# Altium footprint library HD2.PcbLib: 40 footprints (part 1 of 3)
Each footprint in its own frame and in the unit in brackets; x right, y up, seen from the top. Pads: shape width x height; smd on the part's side, far side on the other; paste and mask are expansions set on the pad; w line width, h text height; cw(c..) or ccw(c..) is an arc to the next point about the centre after c.
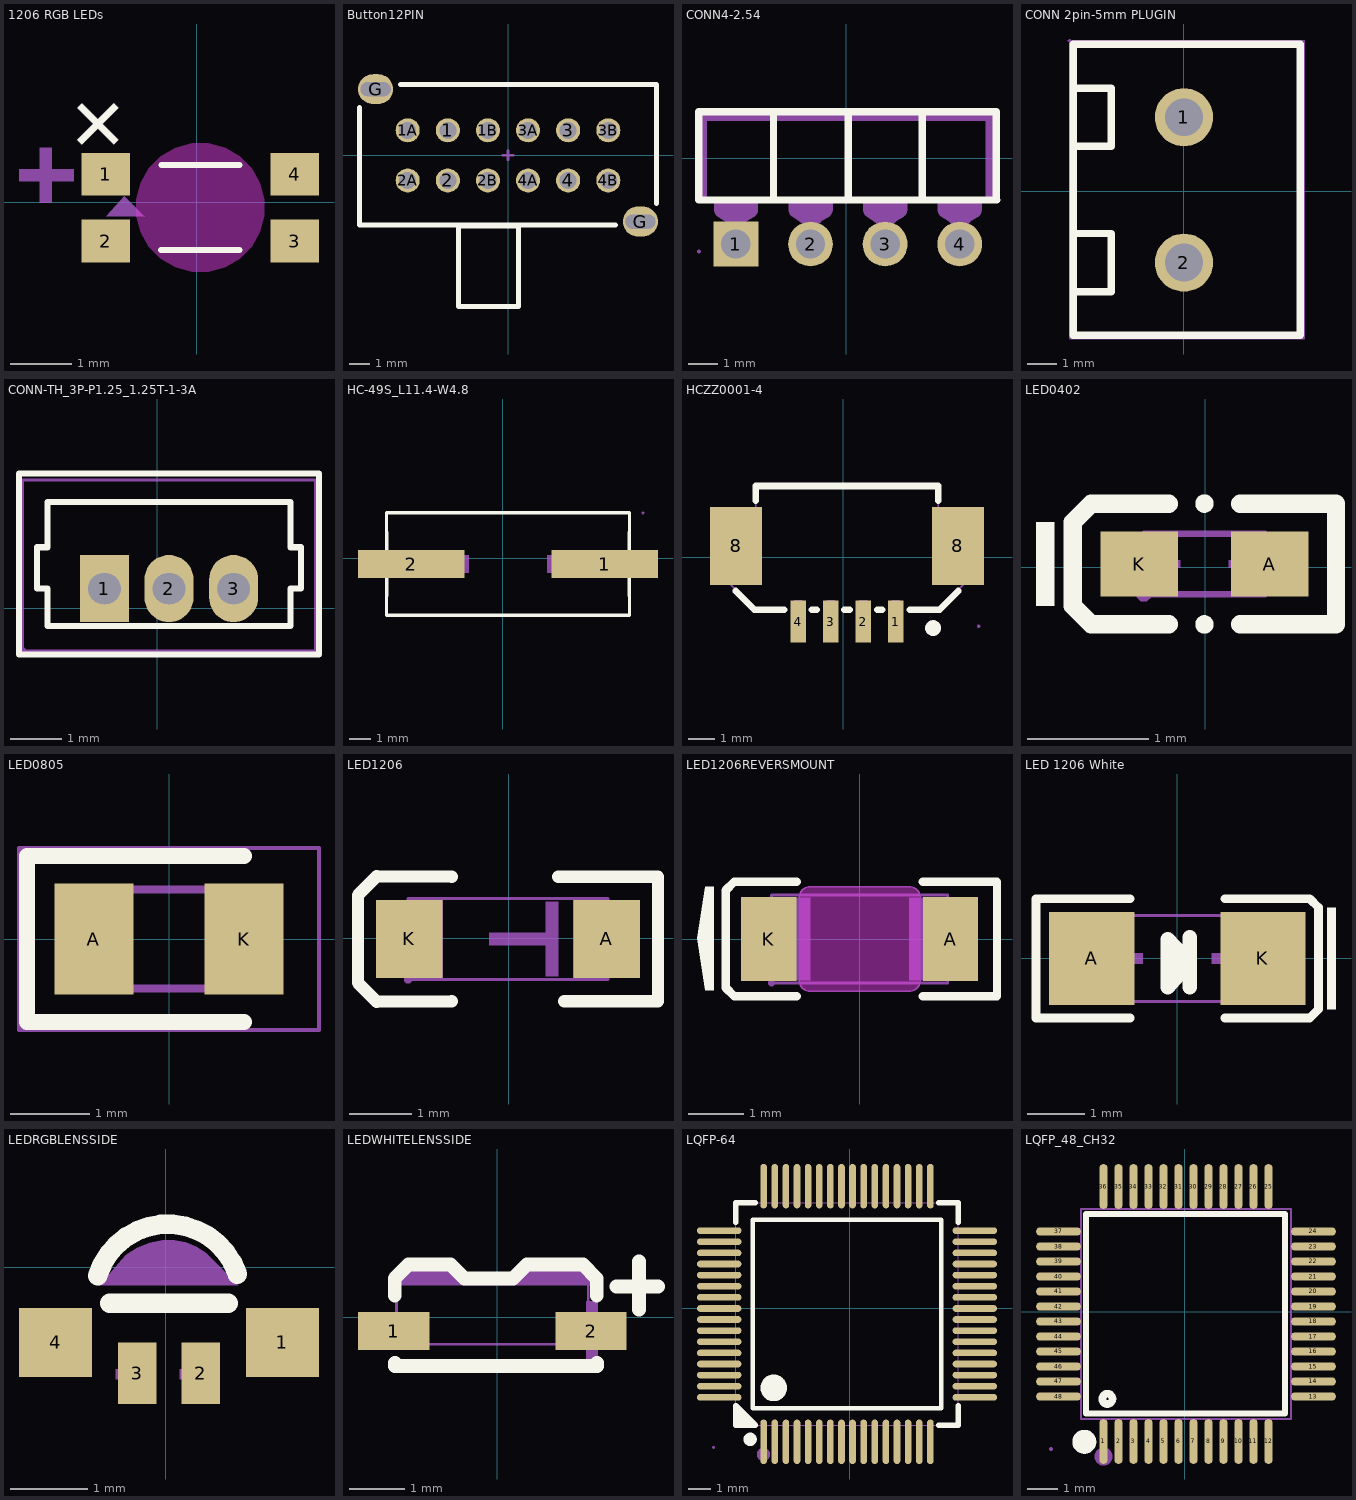
[diagram p0: the footprints below, top view; thin cyan lines are the x and y axes]

## 1206 RGB LEDs [mm]
pads (4):
  rect 0.8x0.7 smd paste+0 mask+0.05: 1(-1.494,0.462) 2(-1.494,-0.638) 3(1.606,-0.638) 4(1.606,0.462)
Top Overlay:
  lines w0.1: -0.59,-0.788 0.702,-0.788 ; -0.58,0.61 0.702,0.61
  text "+" at -1.729,0.577 h1
Keep-Out Layer:
  board cut-out: -0.994,-0.088 -0.995,0.051 -0.924,0.319 -0.786,0.56 -0.59,0.756 -0.35,0.895 -0.083,0.967 0.195,0.967 0.463,0.895 0.703,0.756 0.898,0.56 1.036,0.319 1.107,0.051 1.106,-0.088 1.107,-0.226 1.036,-0.495 0.898,-0.735 0.703,-0.932 0.463,-1.071 0.195,-1.143 -0.083,-1.143 -0.35,-1.071 -0.59,-0.932 -0.786,-0.735 -0.924,-0.495 -0.995,-0.226
Mechanical 15:
  region: -2.582,0.894 -2.582,-0.006 -2.382,-0.006 -2.382,0.894
  region: -2.921,0.343 -2.021,0.343 -2.021,0.543 -2.921,0.543
  region: -1.193,0.099 -1.49,-0.228 -0.866,-0.228

## Button12PIN [mm]
pads (14):
  round 1.2 / inner oval 1.016x1.651 / far side round 1.651 hole 0.85: 1(-3,1.25) 1A(-5,1.25) 1B(-1,1.25) 3(3,1.25) 3A(1,1.25)
  round 1.2 / inner round 1.4 / far side round 1.651 hole 0.85: 2(-3,-1.25) 2A(-5,-1.25) 3B(5,1.25) 4(3,-1.25) 4B(5,-1.25)
  round 1.2 / inner oval 1.143x1.651 / far side round 1.651 hole 0.85: 2B(-1,-1.25) 4A(1,-1.25)
  oval 1.754x1.5 / inner round 1.5 / far side oval 2.5x2 hole 0.7 slot 1.5 at 0 deg: G(-6.6,3.3) G(6.6,-3.3)
Top Overlay:
  lines w0.254: -7.4,2.394 -7.4,-3.47 5.357,-3.47 ; -5.368,3.53 7.4,3.53 7.4,-2.394 ; -2.473,-7.528 0.527,-7.528 0.527,-3.528 -2.473,-3.528 -2.473,-7.528
Mechanical 1:
  lines w0.127: -0.25,0 0.25,0 ; 0,-0.22 0,0.22

## CONN4-2.54 [mil]
pads (4):
  rect 60x60 hole 39.37 paste-99999 mask+2: 1(-147.84,-115)
  round 60 hole 39.37 paste-99999 mask+2: 2(-47.84,-115) 3(52.16,-115) 4(152.16,-115)
Top Overlay:
  lines w10: -97.46,-55.95 -97.46,62.56 ; 2.54,-55.95 2.54,62.56 ; 101.77,-55.95 101.77,57.44 ; 200.98,-55.95 200.98,62.56 -197.84,62.56 -197.84,-55.95 202.16,-55.95
Mechanical 6:
  region: 199.01,-52.01 199.01,62.16 -198.62,62.16 -198.62,-55.95 -186.81,-55.95 -186.81,50.35 187.2,50.35 187.2,-52.01
Mechanical 15:
  drawing of 13 lines, arcs and shapes, not listed

## CONN 2pin-5mm PLUGIN [mm]
pads (2):
  round 2 hole 1.3: 1(0,2.54) 2(0,-2.461)
Top Overlay:
  lines w0.254: -3.8,-3.46 -2.5,-3.46 -2.5,-1.46 -3.8,-1.46 ; -3.8,1.54 -2.5,1.54 -2.5,3.54 -3.8,3.54 ; -3.8,-4.96 0,-4.96 4,-4.96 4,5.04 0,5.04 -3.8,5.04 -3.8,-4.96
Mechanical 15:
  region: -3.867,5.167 -3.867,5.192 -3.902,5.227 -3.952,5.227 -3.987,5.192 -3.987,5.167 -3.987,5.142 -3.952,5.107 -3.902,5.107 -3.867,5.142
  region: 0.55,2.54 0.55,2.649 0.466,2.852 0.312,3.006 0.109,3.09 -0.109,3.09 -0.312,3.006 -0.466,2.852 -0.55,2.649 -0.55,2.54 -0.55,2.431 -0.466,2.228 -0.312,2.074 -0.109,1.99 0.109,1.99 0.312,2.074 0.466,2.228 0.55,2.431
  region: 0.55,-2.461 0.55,-2.352 0.466,-2.15 0.312,-1.995 0.109,-1.911 -0.109,-1.911 -0.312,-1.995 -0.466,-2.15 -0.55,-2.352 -0.55,-2.461 -0.55,-2.571 -0.466,-2.773 -0.312,-2.928 -0.109,-3.011 0.109,-3.011 0.312,-2.928 0.466,-2.773 0.55,-2.571
  lines w0.051: -3.927,-5.087 4.127,-5.087 4.127,5.167 -3.927,5.167 -3.927,-5.087

## CONN-TH_3P-P1.25_1.25T-1-3A [mm]
pads (3):
  rect 0.95x1.3 hole 0.6 slot 0.63 at 0 deg paste-2539.97 mask+0.051: 1(-1.025,0.378)
  oval 0.95x1.3 hole 0.6 slot 0.63 at 0 deg paste-2539.97 mask+0.051: 2(0.225,0.378) 3(1.475,0.378)
Top Overlay:
  lines w0.12: -2.675,-0.897 3.125,-0.897 3.125,2.603 -2.675,2.603 -2.675,-0.897 ; -2.325,0.378 -2.325,1.178 -2.125,1.178 -2.125,2.053 0.225,2.053 2.575,2.053 2.575,1.178 2.775,1.178 2.775,0.378 2.575,0.378 2.575,-0.347 0.225,-0.347 -2.125,-0.347 -2.125,0.378 -2.325,0.378
Mechanical 15:
  region: -1.175,0.198 -1.175,0.558 -0.875,0.558 -0.875,0.198
  region: 0.075,0.558 0.375,0.558 0.375,0.198 0.075,0.198
  region: 1.325,0.558 1.625,0.558 1.625,0.198 1.325,0.198
  region: -2.66,-0.822 -2.66,-0.847 -2.625,-0.882 -2.575,-0.882 -2.54,-0.847 -2.54,-0.822 -2.54,-0.797 -2.575,-0.762 -2.625,-0.762 -2.66,-0.797
  lines w0.051: -2.6,-0.822 -2.6,2.478 3.05,2.478 3.05,-0.822 -2.6,-0.822

## HC-49S_L11.4-W4.8 [mm]
pads (2):
  rect 5x1.3 smd paste+0 mask+0.051: 1(4.789,-0.263) 2(-4.317,-0.263)
Top Overlay:
  lines w0.152: -5.479,-2.676 -5.464,-0.925 -5.479,-2.676 ; -5.479,-2.676 5.951,-2.676 ; -5.479,-2.676 5.951,-2.676 ; -5.479,2.15 5.951,2.15 ; -5.479,2.15 -5.464,0.399 -5.479,2.15 ; -5.479,2.15 5.951,2.15 ; 5.951,-2.676 5.936,-0.925 5.951,-2.676 ; 5.951,2.15 5.936,0.399 5.951,2.15
Mechanical 15:
  region: 2.076,0.137 6.576,0.137 6.576,-0.663 2.076,-0.663
  region: -6.104,0.137 -1.604,0.137 -1.604,-0.663 -6.104,-0.663
  region: 6.516,2.137 6.517,2.113 6.552,2.079 6.6,2.079 6.635,2.113 6.636,2.137 6.635,2.161 6.6,2.195 6.552,2.195 6.517,2.161
  lines w0.051: -5.464,-2.663 -5.464,2.137 5.936,2.137 5.936,-2.663 -5.464,-2.663

## HCZZ0001-4 [mm]
pads (6):
  rect 0.6x1.6 smd paste+0 mask+0.05: 1(2.014,-2.475) 2(0.764,-2.475) 3(-0.486,-2.475) 4(-1.736,-2.475)
  rect 2x3 smd paste+0 mask+0.05: 8(-4.116,0.425) 8(4.394,0.425)
Top Overlay:
  circle w0.3: c3.439,-2.725 r0.15
  lines w0.254: -4.131,-1.305 -3.411,-2.025 -2.267,-2.025 ; -3.361,2.156 -3.361,2.725 3.639,2.725 3.639,2.156 ; -1.205,-2.025 -1.017,-2.025 ; 0.045,-2.025 0.233,-2.025 ; 1.295,-2.025 1.483,-2.025 ; 2.545,-2.025 3.689,-2.025 4.409,-1.305
Mechanical 6:
  circle w0.3: c3.439,-2.725 r0.15
Mechanical 15:
  region: -4.911,-0.575 -3.411,-0.575 -3.411,1.425 -4.911,1.425
  region: -1.586,-2.66 -1.886,-2.66 -1.886,-1.66 -1.586,-1.66
  region: 0.914,-2.66 0.614,-2.66 0.614,-1.66 0.914,-1.66
  region: 2.164,-2.66 1.864,-2.66 1.864,-1.66 2.164,-1.66
  region: -0.336,-2.66 -0.636,-2.66 -0.636,-1.66 -0.336,-1.66
  region: 5.189,-0.575 3.689,-0.575 3.689,1.425 5.189,1.425
  region: 5.129,-2.66 5.13,-2.684 5.165,-2.719 5.214,-2.719 5.249,-2.685 5.249,-2.66 5.249,-2.636 5.214,-2.601 5.165,-2.601 5.13,-2.636
  lines w0.051: -3.361,2.74 -3.361,1.39 -4.911,1.39 -4.911,-0.46 -3.361,-2.01 ; 3.639,-2.01 5.189,-0.46 5.189,1.39 3.639,1.39 3.639,2.74

## LED0402 [mm]
pads (2):
  rect 0.636x0.54 smd paste-100 mask+0.051: A(0.531,0.029) K(-0.545,0.029)
Top Overlay:
  circle w0.076: c-0.007,0.527 r0.038
  circle w0.076: c-0.007,-0.47 r0.038
  region: -1.245,-0.318 -1.245,0.375 -1.397,0.375 -1.397,-0.318
  lines w0.152: -0.303,-0.47 -0.94,-0.47 -1.092,-0.318 -1.092,0.375 -0.94,0.527 -0.303,0.527 ; 0.289,-0.47 1.078,-0.47 1.078,0.527 0.289,0.527
Top Paste:
  region: -0.205,-0.201 -0.205,0.259 -0.245,0.299 -0.824,0.299 -0.864,0.259 -0.864,-0.201 -0.824,-0.241 -0.245,-0.241
  region: 0.191,-0.201 0.191,0.259 0.231,0.299 0.809,0.299 0.849,0.259 0.849,-0.201 0.809,-0.241 0.231,-0.241
Mechanical 6:
  region: 0.343,-0.171 0.343,0.229 0.283,0.229 0.283,-0.171
  region: 0.433,-0.001 0.433,0.059 0.193,0.059 0.193,-0.001
  region: -0.447,-0.001 -0.447,0.059 -0.207,0.059 -0.207,-0.001
Mechanical 15:
  region: 0.493,-0.221 0.493,0.279 0.293,0.279 0.293,-0.221
  region: -0.507,-0.221 -0.507,0.279 -0.307,0.279 -0.307,-0.221
  region: -0.447,-0.221 -0.448,-0.197 -0.482,-0.162 -0.531,-0.162 -0.566,-0.197 -0.567,-0.221 -0.566,-0.246 -0.531,-0.28 -0.482,-0.28 -0.448,-0.246
  lines w0.051: -0.507,-0.221 0.493,-0.221 0.493,0.279 -0.507,0.279 -0.507,-0.221

## LED0805 [mm]
pads (2):
  rect 1x1.4 smd: A(-0.95,0) K(0.95,0)
Top Overlay:
  lines w0.2: 0.95,-1.05 -1.8,-1.05 -1.8,1.05 0.95,1.05
Mechanical 15:
  lines w0.1: -1,0.208 -0.583,0.625 ; -1,-0.625 -1,0.625 1,0.625 1,-0.625 -1,-0.625
Mechanical 20:
  lines w0.05: -1.9,-1.15 -1.9,1.15 1.9,1.15 1.9,-1.15 -1.9,-1.15

## LED1206 [mm]
pads (2):
  rect 1.07x1.25 smd: A(1.567,-0.015) K(-1.593,-0.015)
Top Overlay:
  lines w0.2: -0.913,-1.015 -2.113,-1.016 -2.413,-0.716 -2.413,0.686 -2.113,0.986 -0.913,0.985 ; 0.787,0.985 2.387,0.985 2.387,-1.015 0.887,-1.015
Mechanical 6:
  region: 1.762,-0.44 1.762,0.56 1.612,0.56 1.612,-0.44
  region: 1.987,-0.015 1.987,0.135 1.387,0.135 1.387,-0.015
  region: -2.013,-0.015 -2.013,0.135 -1.413,0.135 -1.413,-0.015
  region: 0.787,-0.615 0.787,0.585 0.587,0.585 0.587,0.085 -0.313,0.085 -0.313,-0.115 0.587,-0.115 0.587,-0.615
Mechanical 15:
  region: -1.553,-0.665 -1.553,-0.64 -1.588,-0.605 -1.637,-0.605 -1.673,-0.64 -1.673,-0.665 -1.673,-0.69 -1.637,-0.725 -1.588,-0.725 -1.553,-0.69
  region: -1.613,0.61 -1.058,0.61 -1.058,-0.64 -1.613,-0.64
  region: 1.587,-0.64 1.032,-0.64 1.032,0.61 1.587,0.61
  lines w0.051: -1.613,-0.665 1.587,-0.665 1.587,0.635 -1.613,0.635 -1.613,-0.665
3D body "LED_1206.STEP": height 1.1, standoff 0, extent -1.6,-0.8 1.6,0.8

## LED1206REVERSMOUNT [mil]
pads (2):
  rect 39.37x60 smd paste+0 mask+1.97: A(65,0) K(-65,0)
Top Overlay:
  region: -104.33,37.4 -110.33,37.4 -116.33,0.37 -110.33,-36.65 -104.33,-36.65
  lines w5.98: -89.75,-40.89 -45,-40.89 ; -89.75,40.89 -45,40.89 ; 45,-40.89 98.23,-40.89 ; 45,40.89 98.23,40.89
  lines w6: -89.75,-40.89 -95.75,-34.89 -95.75,34.89 -89.75,40.89 ; 98.23,-40.89 98.23,40.89
Keep-Out Layer:
  board cut-out: 35.43,37.4 37,37.4 39.89,36.2 42.11,33.99 43.31,31.09 43.31,29.53 43.31,-29.53 43.31,-31.09 42.11,-33.99 39.89,-36.2 37,-37.4 35.43,-37.4 -35.43,-37.4 -37,-37.4 -39.89,-36.2 -42.11,-33.99 -43.31,-31.09 -43.31,-29.53 -43.31,29.53 -43.31,31.09 -42.11,33.99 -39.89,36.2 -37,37.4 -35.43,37.4
Mechanical 1:
  lines w1: -43.31,-29.53 ccw(c-35.43,-29.53) -35.43,-37.4 35.43,-37.4 ccw(c35.43,-29.53) 43.31,-29.53 43.31,29.53 ccw(c35.43,29.53) 35.43,37.4 -35.43,37.4 ccw(c-35.43,29.53) -43.31,29.53 -43.31,-29.53
Mechanical 6:
  region: 73.54,-23.62 73.54,23.62 66.46,23.62 66.46,-23.62
  region: 84.17,-3.54 84.17,3.54 55.83,3.54 55.83,-3.54
  region: -84.17,-3.54 -84.17,3.54 -55.83,3.54 -55.83,-3.54
Mechanical 15:
  region: -62.99,29.53 -35.43,29.53 -35.43,-29.53 -62.99,-29.53
  region: 35.44,29.53 62.99,29.53 62.99,-29.53 35.44,-29.53
  region: -60.63,-31.5 -60.66,-30.54 -62.03,-29.21 -63.95,-29.21 -65.32,-30.54 -65.35,-31.5 -65.32,-32.46 -63.95,-33.79 -62.03,-33.79 -60.66,-32.46
  lines w2: -62.99,-31.5 62.99,-31.5 62.99,31.5 -62.99,31.5 -62.99,-31.5
Multi-Layer keep-out:
  region: 35.43,37.4 43.31,29.53 43.31,-29.53 35.43,-37.4 -35.43,-37.4 -43.31,-29.53 -43.31,29.53 -35.43,37.4

## LED 1206 White [mm]
pads (2):
  rect 1.485x1.62 smd paste-100 mask+0.051: A(-1.493,0) K(1.493,0)
Top Overlay:
  region: 2.616,0.886 2.616,-0.886 2.768,-0.886 2.768,0.886
  lines w0.152: -0.826,-1.039 -2.464,-1.039 -2.464,1.039 -0.826,1.039 ; 0.826,-1.039 2.311,-1.039 2.464,-0.886 2.464,0.886 2.311,1.039 0.826,1.039
  lines w0.254: -0.101,0.177 0.068,-0.197 ; 0.217,-0.505 0.217,0.364 ; -0.167,-0.505 -0.167,0.336 0.217,-0.071 -0.167,-0.505
Top Paste:
  region: -0.75,0.71 -0.75,0.375 -0.85,0.275 -1.155,0.275 -1.255,0.175 -1.255,-0.175 -1.155,-0.275 -0.85,-0.275 -0.75,-0.375 -0.75,-0.71 -0.85,-0.81 -2.135,-0.81 -2.235,-0.71 -2.235,0.71 -2.135,0.81 -0.85,0.81
  region: 0.75,0.71 0.75,0.375 0.85,0.275 1.155,0.275 1.255,0.175 1.255,-0.175 1.155,-0.275 0.85,-0.275 0.75,-0.375 0.75,-0.71 0.85,-0.81 2.135,-0.81 2.235,-0.71 2.235,0.71 2.135,0.81 0.85,0.81
Mechanical 6:
  region: 1.32,0.09 1.32,-0.09 0.6,-0.09 0.6,0.09
  region: -1.32,0.09 -1.32,-0.09 -0.6,-0.09 -0.6,0.09
  region: -1.05,0.6 -1.05,-0.6 -0.87,-0.6 -0.87,0.6
Mechanical 15:
  region: 1.5,0.75 1.5,-0.75 1,-0.75 1,0.75
  region: -1.5,0.75 -1.5,-0.75 -1,-0.75 -1,0.75
  region: -1.56,-0.75 -1.56,-0.775 -1.525,-0.81 -1.475,-0.81 -1.44,-0.775 -1.44,-0.75 -1.44,-0.725 -1.475,-0.69 -1.525,-0.69 -1.56,-0.725
  lines w0.051: -1.5,-0.75 -1.5,0.75 1.5,0.75 1.5,-0.75 -1.5,-0.75
3D body "LED 0805 Base WHITE.STEP": height 0.4, standoff 0, extent -1.204,-0.66 0.796,0.59

## LEDRGBLENSSIDE [mm]
pads (4):
  rect 0.95x0.9 smd paste+0 mask+0.051: 1(1.52,-0.978) 4(-1.43,-0.978)
  rect 0.5x0.8 smd paste+0 mask+0.051: 2(0.46,-1.378) 3(-0.37,-1.378)
Top Overlay:
  lines w0.254: -0.882,-0.113 cw(c0.03,-0.395) 0.934,-0.089 ; -0.724,-0.47 0.814,-0.47
Mechanical 15:
  region: 1.245,-0.928 1.245,-1.055 1.753,-1.055 1.753,-0.928
  region: 1.436,-1.246 1.563,-1.246 1.563,-0.738 1.436,-0.738
  region: -1.705,-0.928 -1.705,-1.055 -1.197,-1.055 -1.197,-0.928
  region: -0.645,-1.328 -0.645,-1.455 -0.137,-1.455 -0.137,-1.328
  region: 0.186,-1.328 0.186,-1.455 0.694,-1.455 0.694,-1.328
  region: -0.855,-0.238 -0.569,0.097 -0.509,0.158 -0.367,0.253 -0.208,0.319 -0.04,0.352 0.045,0.352 0.119,0.352 0.263,0.323 0.4,0.267 0.522,0.185 0.574,0.133 0.945,-0.238

## LEDWHITELENSSIDE [mm]
pads (2):
  rect 1.3x0.7 smd paste+0 mask+0.051: 1(-1.89,-0.254) 2(1.71,-0.254)
Top Overlay:
  lines w0.254: -1.87,0.396 -1.87,0.45 -1.87,0.704 -1.616,0.958 -0.854,0.958 -0.6,0.704 0.289,0.704 0.543,0.958 1.432,0.958 1.559,0.958 1.813,0.704 1.813,0.396 ; -1.863,-0.835 -1.863,-0.889 1.82,-0.889 1.82,-0.835 ; 2.17,0.556 2.93,0.556 ; 2.58,0.136 2.58,1.016
Mechanical 6:
  region: -2.51,-0.385 -2.51,-0.175 -1.34,-0.175 -1.34,-0.385
  region: 1.831,-0.884 1.621,-0.884 1.621,0.286 1.831,0.286
  region: 1.09,-0.385 1.09,-0.175 2.26,-0.175 2.26,-0.385
  region: 1.84,0.576 1.78,0.686 1.58,0.946 0.55,0.946 0.54,0.946 0.22,0.626 -0.52,0.626 -0.59,0.626 -0.91,0.946 -1.56,0.946 -1.57,0.946 -1.945,0.571
Mechanical 15:
  region: -1.93,-0.494 -1.93,-0.469 -1.965,-0.435 -2.015,-0.435 -2.05,-0.469 -2.05,-0.494 -2.05,-0.519 -2.015,-0.553 -1.965,-0.553 -1.93,-0.519
  region: -1.29,-0.044 -1.29,-0.494 -1.99,-0.494 -1.99,-0.044
  region: 1.81,-0.044 1.81,-0.494 1.11,-0.494 1.11,-0.044
  lines w0.051: -1.84,-0.494 1.66,-0.494 1.66,0.706 -1.84,0.706 -1.84,-0.494

## LQFP-64 [mm]
pads (64):
  oval 0.3x2 smd paste+0 mask+0.051: 1(-3.879,-6.006) 2(-3.379,-6.006) 3(-2.879,-6.006) 4(-2.379,-6.006) 5(-1.879,-6.006) 6(-1.379,-6.006) 7(-0.879,-6.006) 8(-0.379,-6.006) 9(0.121,-6.006) 10(0.621,-6.006) 11(1.121,-6.006) 12(1.621,-6.006) 13(2.121,-6.006) 14(2.621,-6.006) 15(3.121,-6.006) 16(3.621,-6.006) 33(3.621,5.494) 34(3.121,5.494) 35(2.621,5.494) 36(2.121,5.494) 37(1.621,5.494) 38(1.121,5.494) 39(0.621,5.494) 40(0.121,5.494) 41(-0.379,5.494) 42(-0.879,5.494) 43(-1.379,5.494) 44(-1.879,5.494) 45(-2.379,5.494) 46(-2.879,5.494) 47(-3.379,5.494) 48(-3.879,5.494)
  oval 2x0.3 smd paste+0 mask+0.051: 17(5.621,-4.006) 18(5.621,-3.506) 19(5.621,-3.006) 20(5.621,-2.506) 21(5.621,-2.006) 22(5.621,-1.506) 23(5.621,-1.006) 24(5.621,-0.506) 25(5.621,-0.006) 26(5.621,0.494) 27(5.621,0.994) 28(5.621,1.494) 29(5.621,1.994) 30(5.621,2.494) 31(5.621,2.994) 32(5.621,3.494) 49(-5.879,3.494) 50(-5.879,2.994) 51(-5.879,2.494) 52(-5.879,1.994) 53(-5.879,1.494) 54(-5.879,0.994) 55(-5.879,0.494) 56(-5.879,-0.006) 57(-5.879,-0.506) 58(-5.879,-1.006) 59(-5.879,-1.506) 60(-5.879,-2.006) 61(-5.879,-2.506) 62(-5.879,-3.006) 63(-5.879,-3.506) 64(-5.879,-4.006)
Top Overlay:
  region: -4.26,-5.256 -5.129,-4.387 -5.129,-5.256
  lines w0.2: -4.379,-4.506 -4.379,3.994 4.121,3.994 4.121,-4.506 -4.379,-4.506
  lines w0.254: -5.129,3.875 -5.129,4.744 -4.26,4.744 ; 4.002,-5.256 4.871,-5.256 4.871,-4.387 ; 4.002,4.744 4.871,4.744 4.871,3.875 ; -5.129,-4.387 -5.129,-4.387 ; -5.129,-4.387 -4.26,-5.256 -5.129,-5.256 -5.129,-4.387
  lines w0.3: -4.49,-5.746 ccw(c-4.489,-5.896) -4.489,-6.046 ccw(c-4.489,-5.896) -4.488,-5.746
  lines w0.6: -3.429,-3.281 ccw(c-3.426,-3.581) -3.426,-3.881 ccw(c-3.426,-3.581) -3.424,-3.281
Mechanical 6:
  circle w0.3: c-3.889,-6.576 r0.15
Mechanical 15:
  drawing of 133 lines, arcs and shapes, not listed

## LQFP_48_CH32 [mm]
pads (48):
  oval 0.27x1.5 smd paste+0 mask+0.05: 1(-2.703,-4.33) 2(-2.203,-4.33) 3(-1.703,-4.33) 4(-1.203,-4.33) 5(-0.703,-4.33) 6(-0.203,-4.33) 7(0.297,-4.33) 8(0.797,-4.33) 9(1.297,-4.33) 10(1.797,-4.33) 11(2.297,-4.33) 12(2.797,-4.33) 25(2.797,4.17) 26(2.297,4.17) 27(1.797,4.17) 28(1.297,4.17) 29(0.797,4.17) 30(0.297,4.17) 31(-0.203,4.17) 32(-0.703,4.17) 33(-1.203,4.17) 34(-1.703,4.17) 35(-2.203,4.17) 36(-2.703,4.17)
  oval 1.5x0.27 smd paste+0 mask+0.05: 13(4.297,-2.83) 14(4.297,-2.33) 15(4.297,-1.83) 16(4.297,-1.33) 17(4.297,-0.83) 18(4.297,-0.33) 19(4.297,0.17) 20(4.297,0.67) 21(4.297,1.17) 22(4.297,1.67) 23(4.297,2.17) 24(4.297,2.67) 37(-4.203,2.67) 38(-4.203,2.17) 39(-4.203,1.67) 40(-4.203,1.17) 41(-4.203,0.67) 42(-4.203,0.17) 43(-4.203,-0.33) 44(-4.203,-0.83) 45(-4.203,-1.33) 46(-4.203,-1.83) 47(-4.203,-2.33) 48(-4.203,-2.83)
Top Overlay:
  circle w0.254: c-2.573,-2.91 r0.17
  lines w0.2: -2.849,3.26 3.349,3.26 3.349,-3.395 -3.28,-3.395 -3.28,3.26 -2.518,3.26
  lines w0.4: -3.343,-4.14 ccw(c-3.342,-4.34) -3.342,-4.54 ccw(c-3.342,-4.34) -3.341,-4.14
Mechanical 6:
  circle w0.3: c-2.703,-4.83 r0.15
Mechanical 15:
  drawing of 101 lines, arcs and shapes, not listed